# Altium schematic symbol library Реле.SchLib: 10 symbols
Pins are listed as number, name and electrical type; pins without a type are passive.

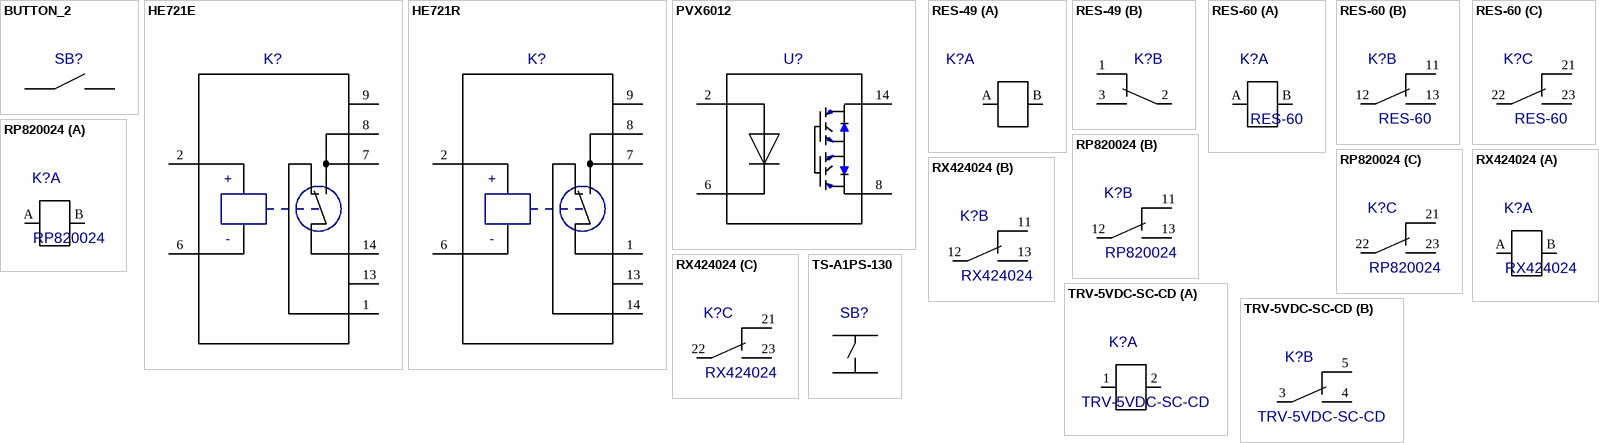
[diagram p0: symbols BUTTON_2 to TS-A1PS-130]

## BUTTON_2
designator SB?  (value not drawn)
Value: *
pins: 1, 2

## HE721E
designator K?, comment HE721E0500  (value not drawn)
HE700 is a miniature reed relay in a DIL package with a choice / of normally open, normally open high voltage, normally closed or / changeover contacts capable of switching up to 300Vdc at 10W. It / is available with 5V, 12V, and 24V coils and diode suppression and / also available with magnetic shield option; Value: HE721E0500
footprint HE700 (DIP14-8)
pins: 1, 2, 6, 7, 8, 9, 13, 14
text: +; -

## HE721R
designator K?, comment HE721R0500  (value not drawn)
HE700 is a miniature reed relay in a DIL package with a choice / of normally open, normally open high voltage, normally closed or / changeover contacts capable of switching up to 300Vdc at 10W. It / is available with 5V, 12V, and 24V coils and diode suppression and / also available with magnetic shield option; Value: HE721R0500
footprint HE700 (DIP14-8)
pins: 1, 2, 6, 7, 8, 9, 13, 14
text: +; -

## PVX6012
designator U?  (value not drawn)
Value: *
footprint PVX6012
pins: 2, 6, 8, 14

## RES-49
designator K?  (value not drawn)
Value: *
footprint RES49
part A pins: A, B
part B pins: 1, 2, 3

## RES-60
designator K?
Value: *
footprint RES-60
part A pins: A, B
part B pins: 11, 12, 13
part C pins: 21, 22, 23

## RP820024
designator K?
Value: *
footprint RX424024
part A pins: A, B
part B pins: 11, 12, 13
part C pins: 21, 22, 23

## RX424024
designator K?
Value: *
footprint RX424024
part A pins: A, B
part B pins: 11, 12, 13
part C pins: 21, 22, 23

## TRV-5VDC-SC-CD
designator K?
Value: *
footprint TRV-5VDC-SC-CD
part A pins: 1, 2
part B pins: 3, 4, 5

## TS-A1PS-130
designator SB?  (value not drawn)
Value: *
footprint TS-A1PS-130
pins: 1, 2, 3, 4